# Altium schematic symbol library Switch SPDT.Schlib: 1 symbol
Pins are listed as number, name and electrical type; pins without a type are passive.

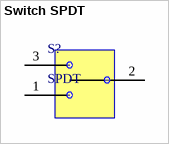
[diagram p0: symbol Switch SPDT]

## Switch SPDT
designator S?, comment SPDT
Switch, SPDT
pins: 1 0, 2 1, 3 2